# Altium schematic symbol library LM2596_family.SchLib: 3 symbols
Pins are listed as number, name and electrical type; pins without a type are passive.

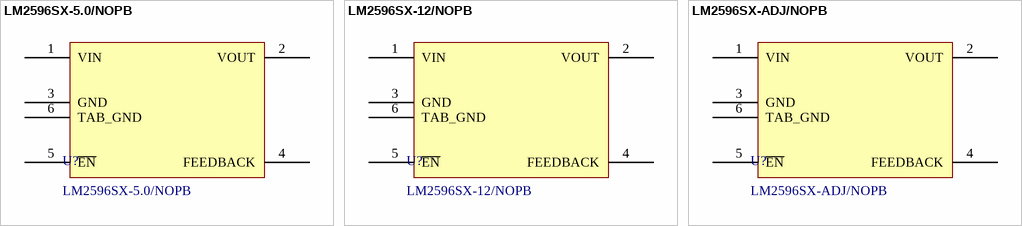
[diagram p0: symbols LM2596SX-5.0/NOPB to LM2596SX-ADJ/NOPB]

## LM2596SX-5.0/NOPB
designator U?
Step-down type Fixed 5V 3A 4.5V~40V TO-263-5 DC-DC Converters ROHS /; Manufacturer: Texas Instruments; Number of Outputs: 1; Switching Frequency: 150 kHz; Voltage Input Maximum: 40 V; Voltage Input Minimum: 4.5V; ComponentLink1Description: Datasheet; ComponentLink1URL: https://www.lcsc.com/datasheet/lcsc_datasheet_2304140030_Texas-Instruments-LM2596SX-5-0-NOPB_C10002.pdf; LCSC Part #: C10002; Manufacturer Part Number: LM2596SX-5.0/NOPB; Mount: SMD/SMT; Operating Temperature Max: + 125 C; Operating Temperature Min: - 40 C; Output Current: 3 A; Output Voltage: 5V; Package / Case: TO-263-5; Packaging: Tape and Reel; Supplier 1: Mouser; Supplier 1 Part Number: 926-LM2596SX-5.0NOPB; Supplier 1 URL: https://www.mouser.vn/ProductDetail/Texas-Instruments/LM2596SX-5.0-NOPB?qs=X1J7HmVL2ZGZ5T4VcWdmNw%3D%3D; Supplier 2: Digi-Key; Supplier 2 Part Number: LM2596SX-5.0/NOPBTR-ND; Supplier 2 URL: https://www.digikey.com/en/products/detail/texas-instruments/lm2596sx-5-0-nopb/334927; Supplier 3: thegioiic; Supplier 3 Part Number: LM2596S-5.0; Supplier 3 URL: https://www.thegioiic.com/lm2596s-5-0-ic-dieu-chinh-giam-ap-5v-3a-to-263-5; Value: LM2596SX-5.0/NOPB; Voltage Output: 5V
footprint LM2596_family
pins: 1 VIN, 2 VOUT, 3 GND, 4 FEEDBACK, 5 ~{EN}, 6 TAB_GND

## LM2596SX-12/NOPB
designator U?
Step-down type Fixed 12V 3A 4.5V~40V TO-263-5 DC-DC Converters ROHS; Manufacturer: Texas Instruments; Number of Outputs: 1; Switching Frequency: 150 kHz; Voltage Input Maximum: 40 V; Voltage Input Minimum: 4.5V; ComponentLink1Description: Datasheet; ComponentLink1URL: https://www.lcsc.com/datasheet/lcsc_datasheet_2304140030_Texas-Instruments-LM2596SX-5-0-NOPB_C10002.pdf; LCSC Part #: C17127; Manufacturer Part Number: LM2596SX-12/NOPB; Mount: SMD/SMT; Operating Temperature Max: + 125 C; Operating Temperature Min: - 40 C; Output Current: 3 A; Output Voltage: 12V; Package / Case: TO-263-5; Packaging: Tape and Reel; Supplier 1: Mouser; Supplier 1 Part Number: 926-LM2596SX-12/NOPB; Supplier 1 URL: https://www.mouser.vn/ProductDetail/Texas-Instruments/LM2596SX-12-NOPB?qs=X1J7HmVL2ZHok0c6irdewQ%3D%3D; Supplier 2: Digi-Key; Supplier 2 Part Number: LM2596SX-12/NOPBTR-ND; Supplier 2 URL: https://www.digikey.com/en/products/detail/texas-instruments/lm2596sx-12-nopb/366831; Supplier 3: thegioiic; Supplier 3 Part Number: LM2596S-12; Supplier 3 URL: https://www.thegioiic.com/lm2596s-12-ic-dieu-chinh-giam-ap-3a-to-263-5; Value: LM2596SX-12/NOPB; Voltage Output: 12V
footprint LM2596_family
pins: 1 VIN, 2 VOUT, 3 GND, 4 FEEDBACK, 5 ~{EN}, 6 TAB_GND

## LM2596SX-ADJ/NOPB
designator U?
Step-down type Adjustable 1.2V~37V 3A 4.5V~40V TO-263-5 DC-DC Converters ROHS; Manufacturer: Texas Instruments; Number of Outputs: 1; Output Voltage: 1.2V - 37V; Switching Frequency: 150 kHz; Voltage Input Maximum: 40 V; Voltage Input Minimum: 4.5V; ComponentLink1Description: Datasheet; ComponentLink1URL: https://www.lcsc.com/datasheet/lcsc_datasheet_2304140030_Texas-Instruments-LM2596SX-5-0-NOPB_C10002.pdf; LCSC Part #: C29781; Manufacturer Part Number: LM2596SX-ADJ/NOPB; Mount: SMD/SMT; Operating Temperature Max: + 125 C; Operating Temperature Min: - 40 C; Output Current: 3 A; Package / Case: TO-263-5; Packaging: Tape and Reel; Supplier 1: Mouser; Supplier 1 Part Number: 926-LM2596SX-ADJNOPB; Supplier 1 URL: https://www.mouser.vn/ProductDetail/Texas-Instruments/LM2596SX-ADJ-NOPB?qs=X1J7HmVL2ZGDNERsF5YBdQ%3D%3D; Supplier 2: Digi-Key; Supplier 2 Part Number: 296-35399-2-ND; Supplier 2 URL: https://www.digikey.com/en/products/detail/texas-instruments/LM2596SX-ADJ-NOPB/366833?s=N4IgTCBcDaIAQBkCyYCsBOAbAZQBoFoBBAEQCkB6AOQHkAFAIRAF0BfIA; Supplier 3: thegioiic; Supplier 3 Part Number: LM2596S-ADJ; Supplier 3 URL: https://www.thegioiic.com/lm2596s-adj-nopb-ic-dieu-chinh-giam-ap-3a-to-263-5; Value: LM2596SX-ADJ/NOPB; Voltage Output: 1.2V - 37V
footprint LM2596_family
pins: 1 VIN, 2 VOUT, 3 GND, 4 FEEDBACK, 5 ~{EN}, 6 TAB_GND